# Altium footprint library MT41J256M16HA-125&colon_ETR.PcbLib: 1 footprints
Each footprint in its own frame and in the unit in brackets; x right, y up, seen from the top. Pads: shape width x height; smd on the part's side, far side on the other; paste and mask are expansions set on the pad; w line width, h text height; cw(c..) or ccw(c..) is an arc to the next point about the centre after c.
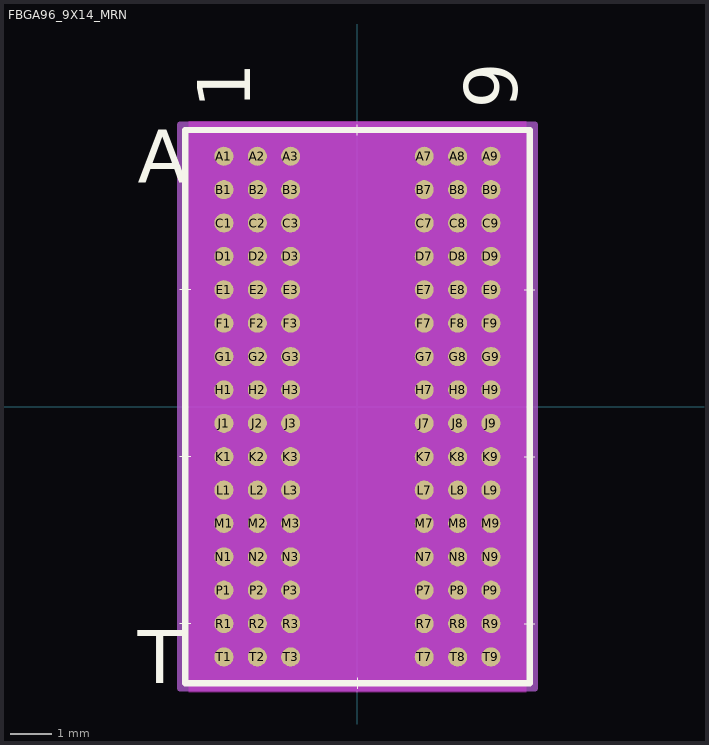
[diagram p0: the footprint, top view; thin cyan lines are the x and y axes]

## FBGA96_9X14_MRN [mm]
pads (96):
  round 0.457 smd paste+0 mask+0: A1(-3.2,6) A2(-2.4,6) A3(-1.6,6) A7(1.6,6) A8(2.4,6) A9(3.2,6) B1(-3.2,5.2) B2(-2.4,5.2) B3(-1.6,5.2) B7(1.6,5.2) B8(2.4,5.2) B9(3.2,5.2) C1(-3.2,4.4) C2(-2.4,4.4) C3(-1.6,4.4) C7(1.6,4.4) C8(2.4,4.4) C9(3.2,4.4) D1(-3.2,3.6) D2(-2.4,3.6) D3(-1.6,3.6) D7(1.6,3.6) D8(2.4,3.6) D9(3.2,3.6) E1(-3.2,2.8) E2(-2.4,2.8) E3(-1.6,2.8) E7(1.6,2.8) E8(2.4,2.8) E9(3.2,2.8) F1(-3.2,2) F2(-2.4,2) F3(-1.6,2) F7(1.6,2) F8(2.4,2) F9(3.2,2) G1(-3.2,1.2) G2(-2.4,1.2) G3(-1.6,1.2) G7(1.6,1.2) G8(2.4,1.2) G9(3.2,1.2) H1(-3.2,0.4) H2(-2.4,0.4) H3(-1.6,0.4) H7(1.6,0.4) H8(2.4,0.4) H9(3.2,0.4) J1(-3.2,-0.4) J2(-2.4,-0.4) J3(-1.6,-0.4) J7(1.6,-0.4) J8(2.4,-0.4) J9(3.2,-0.4) K1(-3.2,-1.2) K2(-2.4,-1.2) K3(-1.6,-1.2) K7(1.6,-1.2) K8(2.4,-1.2) K9(3.2,-1.2) L1(-3.2,-2) L2(-2.4,-2) L3(-1.6,-2) L7(1.6,-2) L8(2.4,-2) L9(3.2,-2) M1(-3.2,-2.8) M2(-2.4,-2.8) M3(-1.6,-2.8) M7(1.6,-2.8) M8(2.4,-2.8) M9(3.2,-2.8) N1(-3.2,-3.6) N2(-2.4,-3.6) N3(-1.6,-3.6) N7(1.6,-3.6) N8(2.4,-3.6) N9(3.2,-3.6) P1(-3.2,-4.4) P2(-2.4,-4.4) P3(-1.6,-4.4) P7(1.6,-4.4) P8(2.4,-4.4) P9(3.2,-4.4) R1(-3.2,-5.2) R2(-2.4,-5.2) R3(-1.6,-5.2) R7(1.6,-5.2) R8(2.4,-5.2) R9(3.2,-5.2) T1(-3.2,-6) T2(-2.4,-6) T3(-1.6,-6) T7(1.6,-6) T8(2.4,-6) T9(3.2,-6)
Top Overlay:
  lines w0.025: -4.255,-5.2 -4,-5.2 ; -4.255,-1.2 -4,-1.2 ; -4.255,2.8 -4,2.8 ; 0,-6.756 0,-6.502 ; 0,6.502 0,6.756 ; 4,-5.2 4.255,-5.2 ; 4,-1.2 4.255,-1.2 ; 4,2.8 4.255,2.8
  lines w0.152: -4.127,-6.629 4.127,-6.629 4.127,6.629 -4.127,6.629 -4.127,-6.629
  text "A" at -5.271,5.365 h1.27
  text "T" at -5.271,-6.635 h1.27
  text "1" at -2.565,7.137 h1.27
  text "9" at 3.835,7.137 h1.27
Bottom Overlay:
  text "A" at -4.635,5.365 h1.27
  text "T" at -4.635,-6.635 h1.27
  text "1" at -3.835,7.137 h1.27
  text "9" at 2.565,7.137 h1.27
Keep-Out Layer:
  region: -4.045,-6.844 -4.045,6.844 4.045,6.844 4.045,-6.844
Mechanical 13:
  lines w0.025: -4,6.102 -3.601,6.502 ; -4,-6.502 4,-6.502 4,6.502 -4,6.502 -4,-6.502
  text "A" at -5.271,5.365 h1.27
  text "T" at -5.271,-6.635 h1.27
  text "1" at -2.565,7.137 h1.27
  text "9" at 3.835,7.137 h1.27
Mechanical 15:
  region: 4.255,-6.756 -4.255,-6.756 -4.255,6.756 4.255,6.756
  lines w0.152: -4.255,-6.756 -4.255,6.756 4.255,6.756 4.255,-6.756 -4.255,-6.756
3D body "FBGA96_9X14_MRN.step": height 0.99, standoff 0, extent -4,-6.502 4,6.502